# EAGLE library part MSTBA10 (library con-phoenix-508)
PHOENIX
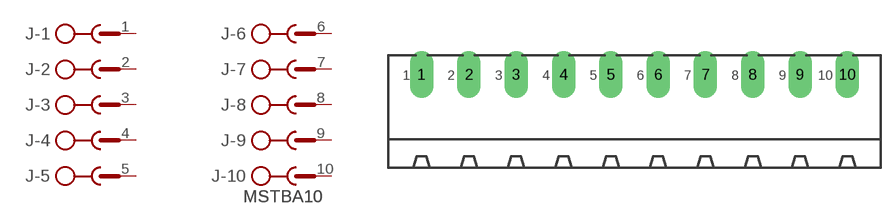
[diagram p53: symbol with the pads of MSTBA10; footprint MSTBA10]

Designator prefix J; gates -1=SK -2=SK -3=SK -4=SK -5=SK -6=SK -7=SK -8=SK -9=SK -10=SKV

## MSTBA10  [MSTBA10]
1  -1:1  pas
2  -2:1  pas
3  -3:1  pas
4  -4:1  pas
5  -5:1  pas
6  -6:1  pas
7  -7:1  pas
8  -8:1  pas
9  -9:1  pas
10  -10:1  pas

## Footprint MSTBA10 (pad centres in mm)
PHOENIX
drill 1.422 pad 2.54 long: 1 -22.86,5.08; 2 -17.78,5.08; 3 -12.7,5.08; 4 -7.62,5.08; 5 -2.54,5.08; 6 2.54,5.08; 7 7.62,5.08; 8 12.7,5.08; 9 17.78,5.08; 10 22.86,5.08